# Altium schematic symbol library SW-DIP-SPST-2POS.SchLib: 1 symbol
Pins are listed as number, name and electrical type; pins without a type are passive.

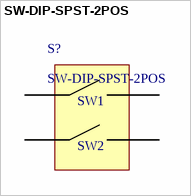
[diagram p0: symbol SW-DIP-SPST-2POS]

## SW-DIP-SPST-2POS
designator S?
pins: 1, 2, 3, 4
text: SW1; SW2